# EAGLE library part 61003218321 (library Wurth_Elektronik_Electromechanic_Board_to_Board_Connectors_rev16a)
WR-PHD 2.54mm SMT Pin Header, 32 Pins =>Code : Con_BTB_PHD_2.54_1_SMT_61003218321 <http://katalog.we-online.de/media/images/eican/Con_BTB_PHD_2.54_1_SMT_6100xx18221_pf2.jpg> Details see: http://katalog.we-online.de/en/em/610_0xx_182_21 Created 2014-05-29, Karrer Zheng 2014 (C) Würth Elektronik
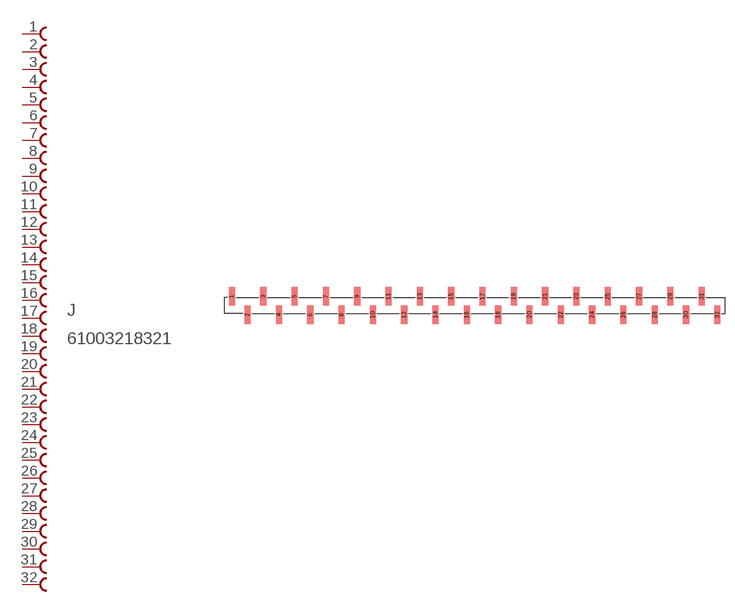
[diagram p317: symbol with the pads of 61003218321; footprint 61003218321]

Designator prefix J

## 61003218321  [61003218321]
1  1  pas
2  2  pas
3  3  pas
4  4  pas
5  5  pas
6  6  pas
7  7  pas
8  8  pas
9  9  pas
10  10  pas
11  11  pas
12  12  pas
13  13  pas
14  14  pas
15  15  pas
16  16  pas
17  17  pas
18  18  pas
19  19  pas
20  20  pas
21  21  pas
22  22  pas
23  23  pas
24  24  pas
25  25  pas
26  26  pas
27  27  pas
28  28  pas
29  29  pas
30  30  pas
31  31  pas
32  32  pas

## Footprint 61003218321 (pad centres in mm)
WR-PHD 2.54mm SMT Pin Header, 32 Pins
smd 1 x 3: 1 -39.37,1.5; 2 -36.83,-1.5; 3 -34.29,1.5; 4 -31.75,-1.5; 5 -29.21,1.5; 6 -26.67,-1.5; 7 -24.13,1.5; 8 -21.59,-1.5; 9 -19.05,1.5; 10 -16.51,-1.5; 11 -13.97,1.5; 12 -11.43,-1.5; 13 -8.89,1.5; 14 -6.35,-1.5; 15 -3.81,1.5; 16 -1.27,-1.5; 17 1.27,1.5; 18 3.81,-1.5; 19 6.35,1.5; 20 8.89,-1.5; 21 11.43,1.5; 22 13.97,-1.5; 23 16.51,1.5; 24 19.05,-1.5; 25 21.59,1.5; 26 24.13,-1.5; 27 26.67,1.5; 28 29.21,-1.5; 29 31.75,1.5; 30 34.29,-1.5; 31 36.83,1.5; 32 39.37,-1.5